# EAGLE library part TEXAS_INSTRUMENTS_BY_ELEMENT14_BATCH_1_CDCLVC1108PWR (library DMFX-1_v1.0)
LVCMOS High-Performance Clock Buffer
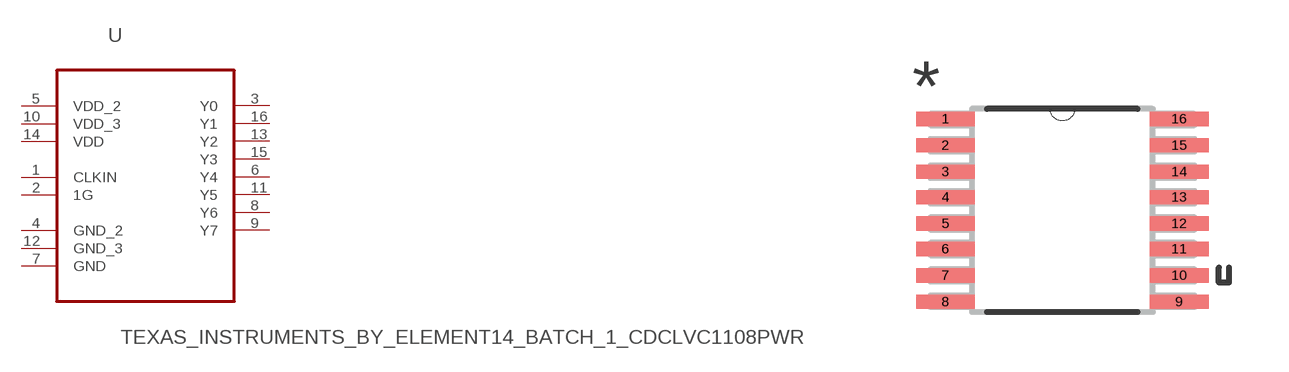
[diagram p3: symbol with the pads of TEXAS_INSTRUMENTS_BY_ELEMENT14_BATCH_1_SOP65P640X120-16N; footprint TEXAS_INSTRUMENTS_BY_ELEMENT14_BATCH_1_SOP65P640X120-16N]

Designator prefix U

## TEXAS_INSTRUMENTS_BY_ELEMENT14_BATCH_1_CDCLVC1108PWR (MPN: CDCLVC1108PWR; OC_FARNELL: -; OC_NEWARK: 79R7915; PACKAGE: TSSOP-8; SUPPLIER: Texas Instruments)  [TEXAS_INSTRUMENTS_BY_ELEMENT14_BATCH_1_SOP65P640X120-16N]
1  CLKIN  in
2  1G  in
3  Y0  out
4  GND_2  pas
5  VDD_2  pwr
6  Y4  out
7  GND  pas
8  Y6  out
9  Y7  out
10  VDD_3  pwr
11  Y5  out
12  GND_3  pas
13  Y2  out
14  VDD  pwr
15  Y3  out
16  Y1  out

## Footprint TEXAS_INSTRUMENTS_BY_ELEMENT14_BATCH_1_SOP65P640X120-16N (pad centres in mm)
smd 1.473 x 0.356: 1 -2.921,2.286; 2 -2.921,1.626; 3 -2.921,0.965; 4 -2.921,0.33; 5 -2.921,-0.33; 6 -2.921,-0.965; 7 -2.921,-1.626; 8 -2.921,-2.286; 9 2.921,-2.286; 10 2.921,-1.626; 11 2.921,-0.965; 12 2.921,-0.33; 13 2.921,0.33; 14 2.921,0.965; 15 2.921,1.626; 16 2.921,2.286